# Altium schematic symbol library 0915LP15B026E.Schlib: 1 symbol
Pins are listed as number, name and electrical type; pins without a type are passive.

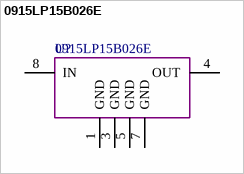
[diagram p0: symbol 0915LP15B026E]

## 0915LP15B026E
designator U?
pins: 1 GND, 3 GND, 4 OUT, 5 GND, 7 GND, 8 IN